# Altium footprint library ch55x.PcbLib: 25 footprints (part 1 of 2)
Each footprint in its own frame and in the unit in brackets; x right, y up, seen from the top. Pads: shape width x height; smd on the part's side, far side on the other; paste and mask are expansions set on the pad; w line width, h text height; cw(c..) or ccw(c..) is an arc to the next point about the centre after c.
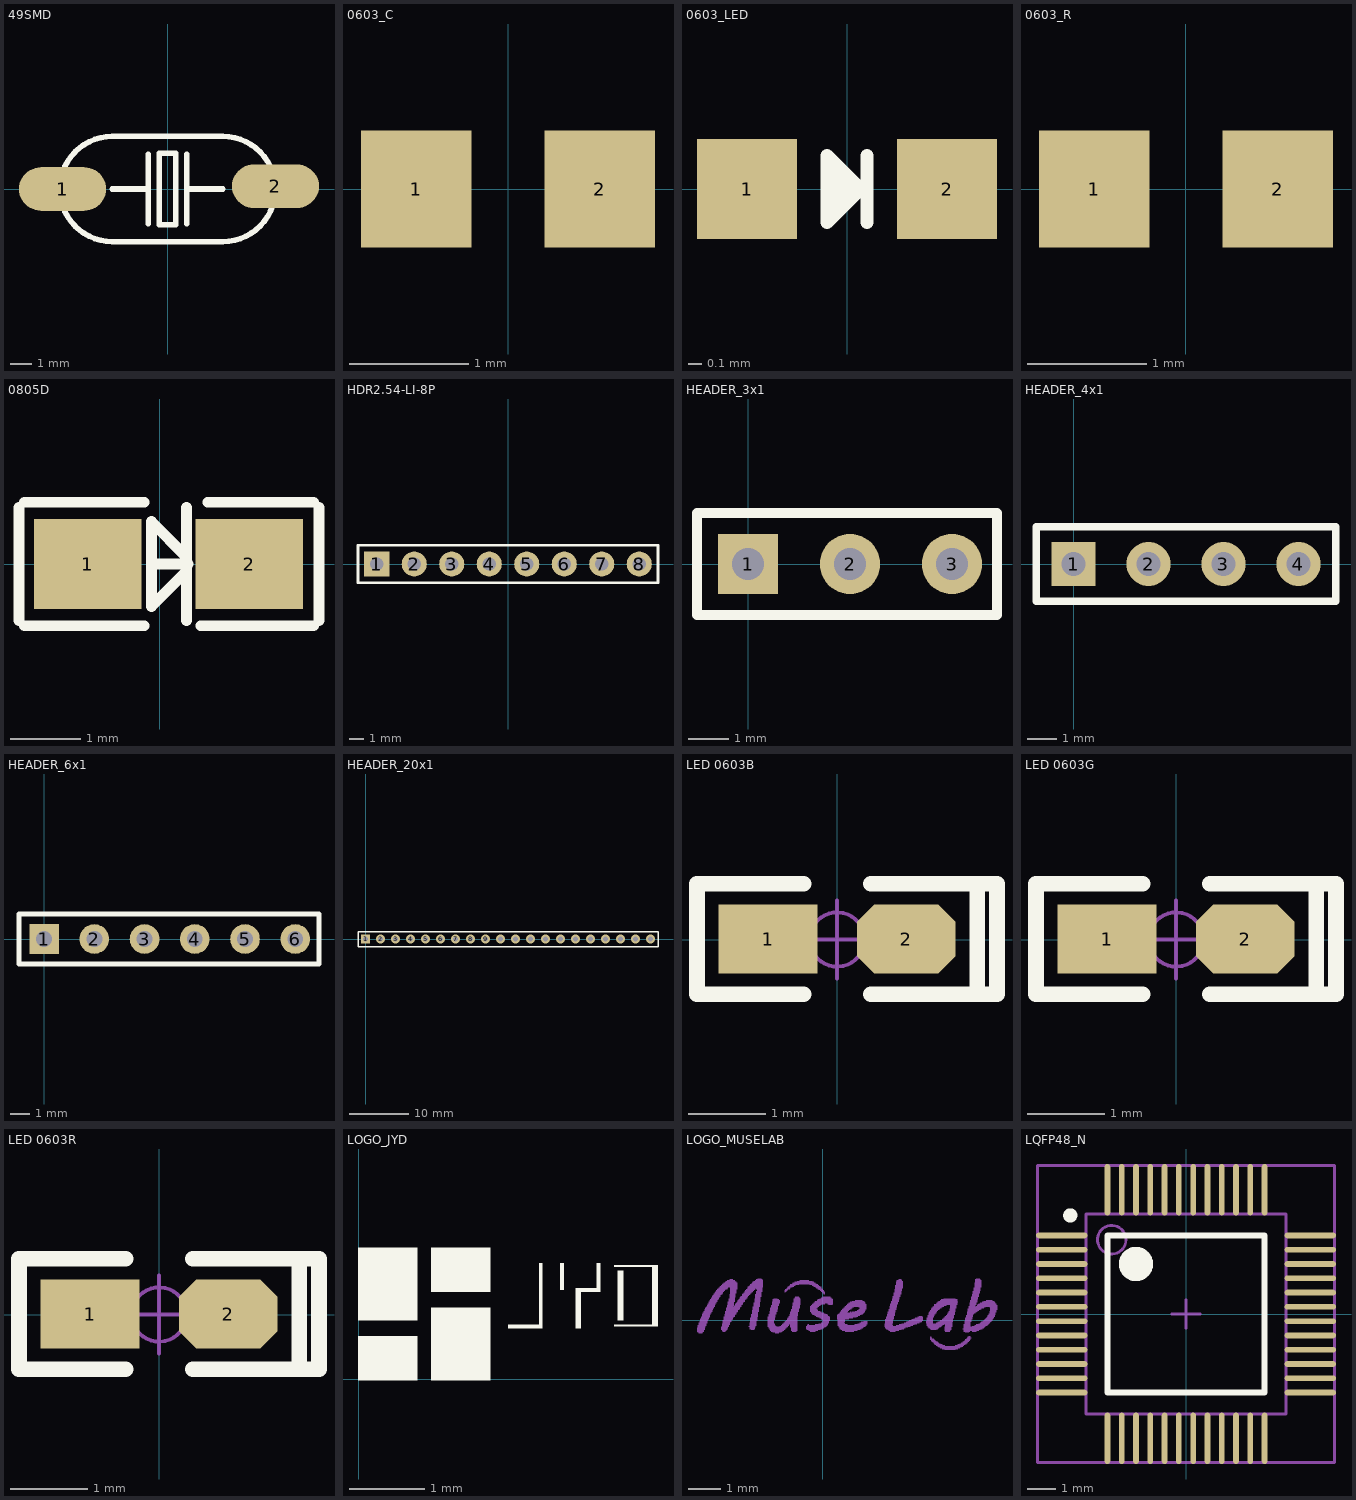
[diagram p0: the footprints below, top view; thin cyan lines are the x and y axes]

## 49SMD [mm]
pads (2):
  oval 4x2 smd: 1(-4.826,0) 2(4.953,0.127)
Top Overlay:
  lines w0.254: -2.54,0 -0.889,0 ; -0.889,-1.606 -0.889,1.606 ; 0.889,-1.606 0.889,1.606 ; 0.889,0 2.54,0 ; -2.54,-2.413 cw(c-2.54,0) -2.54,2.413 2.54,2.413 cw(c2.54,0) 2.54,-2.413 -2.54,-2.413 ; -0.381,-1.651 -0.381,1.651 0.381,1.651 0.381,-1.651 -0.381,-1.651

## 0603_C [mm]
pads (2):
  rect 0.93x0.98 smd: 1(-0.77,0) 2(0.77,0)
3D body "User Library-0603 SMD Capacitor.STEP": height 0.3, standoff 0, extent -0.8,-0.4 0.8,0.4

## 0603_LED [mm]
pads (2):
  rect 0.75x0.75 smd: 1(-0.75,0) 2(0.75,0)
Top Overlay:
  region: -0.15,0.25 -0.15,-0.25 0.1,0
  lines w0.1: 0.15,-0.25 0.15,0.25 ; 0.15,-0.05 -0.15,0.25 -0.15,-0.25 0.15,0.05

## 0603_R [mm]
pads (2):
  rect 0.93x0.98 smd: 1(-0.77,0) 2(0.77,0)
3D body "User Library-RES_1609-0603.STEP": height 0.56, standoff 0, extent -0.85,-0.4 0.85,0.4

## 0805D [mil]
pads (2):
  rect 60x50 smd: 1(-40,0) 2(50,0)
Top Overlay:
  lines w6.06: -78.43,-31.5 -78.43,31.5 ; -75.43,-34.5 -8.5,-34.5 ; -75.43,34.5 -8.5,34.5 ; -4.25,0 15.87,0 ; 15.05,-4 -4.57,-23.62 -4.57,23.62 15.12,3.94 ; 15.12,-31.56 15.12,31.43 ; 22.99,-34.5 85.98,-34.5 ; 26.93,34.5 85.98,34.5 ; 88.98,-31.5 88.98,31.5

## HDR2.54-LI-8P [mm] "排针，8脚"
pads (8):
  rect 1.7x1.7 hole 0.9: 1(-8.89,0)
  round 1.7 hole 0.9: 2(-6.35,0) 3(-3.81,0) 4(-1.27,0) 5(1.27,0) 6(3.81,0) 7(6.35,0) 8(8.89,0)
Top Overlay:
  lines w0.2: -10.16,-1.27 -10.16,1.27 10.16,1.27 10.16,-1.27 -10.16,-1.27
3D body "HDR2.54-1P.STEP": height 8.5, standoff -3, extent 7.62,-1.27 10.16,1.27
3D body "HDR2.54-1P.STEP": height 8.5, standoff -3, extent 2.54,-1.27 5.08,1.27
3D body "HDR2.54-1P.STEP": height 8.5, standoff -3, extent 5.08,-1.27 7.62,1.27
3D body "HDR2.54-1P.STEP": height 8.5, standoff -3, extent 0,-1.27 2.54,1.27
3D body "HDR2.54-1P.STEP": height 8.5, standoff -3, extent -2.54,-1.27 0,1.27
3D body "HDR2.54-1P.STEP": height 8.5, standoff -3, extent -5.08,-1.27 -2.54,1.27
3D body "HDR2.54-1P.STEP": height 8.5, standoff -3, extent -7.62,-1.27 -5.08,1.27
3D body "HDR2.54-1P.STEP": height 8.5, standoff -3, extent -10.16,-1.27 -7.62,1.27

## HEADER_3x1 [mm]
pads (3):
  rect 1.5x1.5 hole 0.8: 1(0,0)
  round 1.5 hole 0.8: 2(2.54,0) 3(5.08,0)
Top Overlay:
  lines w0.254: -1.27,-1.27 -1.27,1.27 6.2,1.27 6.2,-1.27 -1.27,-1.27

## HEADER_4x1 [mm]
pads (4):
  rect 1.5x1.5 hole 0.8: 1(0,0)
  round 1.5 hole 0.8: 2(2.54,0) 3(5.08,0) 4(7.62,0)
Top Overlay:
  lines w0.254: -1.27,-1.27 8.89,-1.27 8.89,1.27 -1.27,1.27 -1.27,-1.27

## HEADER_6x1 [mm]
pads (6):
  rect 1.5x1.5 hole 0.8: 1(0,0)
  round 1.5 hole 0.8: 2(2.54,0) 3(5.08,0) 4(7.62,0) 5(10.16,0) 6(12.7,0)
Top Overlay:
  lines w0.254: -1.27,-1.27 13.9,-1.27 13.9,1.27 -1.27,1.27 -1.27,-1.27

## HEADER_20x1 [mm]
pads (20):
  rect 1.5x1.5 hole 0.8: 1(0,0)
  round 1.5 hole 0.8: 2(2.54,0) 3(5.08,0) 4(7.62,0) 5(10.16,0) 6(12.7,0) 7(15.24,0) 8(17.78,0) 9(20.32,0) 10(22.86,0) 11(25.4,0) 12(27.94,0) 13(30.48,0) 14(33.02,0) 15(35.56,0) 16(38.1,0) 17(40.64,0) 18(43.18,0) 19(45.72,0) 20(48.26,0)
Top Overlay:
  lines w0.254: -1.27,-1.27 49.53,-1.27 49.53,1.27 -1.27,1.27 -1.27,-1.27

## LED 0603B [mil] "蓝色0603LED"
pads (2):
  rect 50x35 smd: 1(-35,0.26)
  oct 50x35 smd: 2(35,0.26)
Top Overlay:
  lines w8: -17,-27.74 -71,-27.74 -71,-25.74 -71,28.26 -70,28.26 -17,28.26 ; 17,-27.74 70,-27.74 ; 17,28.26 71,28.26 81,28.26 81,-27.74 71,-27.74 71,26.26
Mechanical 15:
  circle w1.97: c0,0 r13.78
  lines w1.97: -19.68,0 19.68,0 ; 0,-19.68 0,19.68
3D body "LED 0603-B.STEP": height 18.36, standoff -0.16, extent -31.49,-15.79 31.5,15.79
3D body "LED 0603玻璃罩.STEP": height 23.82, standoff 8.07, extent -23.58,-15.79 23.58,15.79

## LED 0603G [mil] "绿色0603LED"
pads (2):
  rect 50x35 smd: 1(-35,0.26)
  oct 50x35 smd: 2(35,0.26)
Top Overlay:
  lines w8: -17,-27.74 -71,-27.74 -71,-25.74 -71,28.26 -70,28.26 -17,28.26 ; 17,-27.74 70,-27.74 ; 17,28.26 71,28.26 81,28.26 81,-27.74 71,-27.74 71,26.26
Mechanical 15:
  circle w1.97: c0,0 r13.78
  lines w1.97: -19.68,0 19.68,0 ; 0,-19.68 0,19.68
3D body "LED 0603-G.STEP": height 18.36, standoff -0.16, extent -31.49,-15.79 31.5,15.79
3D body "LED 0603玻璃罩.": height 0, standoff 0, extent 0,0 0,0

## LED 0603R [mil] "红色0603LED"
pads (2):
  rect 50x35 smd: 1(-35,0.26)
  oct 50x35 smd: 2(35,0.26)
Top Overlay:
  lines w8: -17,-27.74 -71,-27.74 -71,-25.74 -71,28.26 -70,28.26 -17,28.26 ; 17,-27.74 70,-27.74 ; 17,28.26 71,28.26 81,28.26 81,-27.74 71,-27.74 71,26.26
Mechanical 15:
  circle w1.97: c0,0 r13.78
  lines w1.97: -19.68,0 19.68,0 ; 0,-19.68 0,19.68
3D body "LED 0603-R.STEP": height 18.36, standoff -0.16, extent -31.5,-15.79 31.5,15.79
3D body "LED 0603玻璃罩.": height 0, standoff 0, extent 0,0 0,0

## LOGO_JYD [mm]
Top Overlay:
  drawing of 275 lines, arcs and shapes, not listed

## LOGO_MUSELAB [mm]
Top Solder:
  drawing of 685 lines, arcs and shapes, not listed

## LQFP48_N [mm]
pads (48):
  oval 1.8x0.2 smd: 1(-4.35,2.75) 2(-4.35,2.25) 3(-4.35,1.75) 4(-4.35,1.25) 5(-4.35,0.75) 6(-4.35,0.25) 7(-4.35,-0.25) 8(-4.35,-0.75) 9(-4.35,-1.25) 10(-4.35,-1.75) 11(-4.35,-2.25) 12(-4.35,-2.75) 25(4.35,-2.75) 26(4.35,-2.25) 27(4.35,-1.75) 28(4.35,-1.25) 29(4.35,-0.75) 30(4.35,-0.25) 31(4.35,0.25) 32(4.35,0.75) 33(4.35,1.25) 34(4.35,1.75) 35(4.35,2.25) 36(4.35,2.75)
  oval 0.2x1.8 smd: 13(-2.75,-4.35) 14(-2.25,-4.35) 15(-1.75,-4.35) 16(-1.25,-4.35) 17(-0.75,-4.35) 18(-0.25,-4.35) 19(0.25,-4.35) 20(0.75,-4.35) 21(1.25,-4.35) 22(1.75,-4.35) 23(2.25,-4.35) 24(2.75,-4.35) 37(2.75,4.35) 38(2.25,4.35) 39(1.75,4.35) 40(1.25,4.35) 41(0.75,4.35) 42(0.25,4.35) 43(-0.25,4.35) 44(-0.75,4.35) 45(-1.25,4.35) 46(-1.75,4.35) 47(-2.25,4.35) 48(-2.75,4.35)
Top Overlay:
  circle w0.6: c-1.75,1.75 r0.3
  circle w0.25: c-4.05,3.45 r0.125
  lines w0.2: -2.75,-2.75 2.75,-2.75 2.75,2.75 -2.75,2.75 -2.75,-2.75
Mechanical 13:
  circle w0.1: c-2.6,2.6 r0.5
  lines w0.1: -3.5,-3.5 3.5,-3.5 3.5,3.5 -3.5,3.5 -3.5,-3.5
Mechanical 15:
  lines w0.1: -0.5,0 0.5,0 ; 0,-0.5 0,0.5 ; -5.2,-5.2 5.2,-5.2 5.2,5.2 -5.2,5.2 -5.2,-5.2